# Altium schematic symbol library jlcpcb_2025_04_capacitors_basic.schlib: 88 symbols (part 4 of 4)
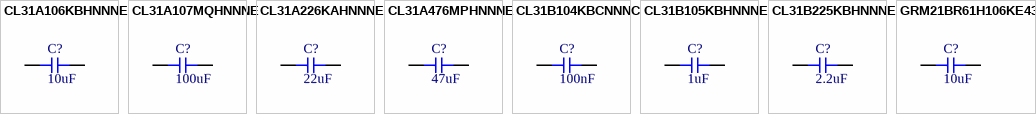
[diagram p5: symbols CL31A106KBHNNNE to GRM21BR61H106KE43L]

## CL31A226KAHNNNE
designator C?  Capacitance: 22uF  (hidden comment: *)
Capacitor, Ceramic (MLCC), 22uF, ±10%, 25V, X5R, ±10%, SMD 1206; Manufacturer: Samsung Electro-Mechanics; Manufacturer Part Number: CL31A226KAHNNNE; Temperature Rating: -55°C ~ 85°C; Capacitance @ 1V DC Bias: 22.377uF; Capacitance @ 1.2V DC Bias: 22.116uF; Capacitance @ 1.35V DC Bias: 21.898uF; Capacitance @ 1.5V DC Bias: 21.664uF; Capacitance @ 1.8V DC Bias: 21.155uF; Capacitance @ 2.5V DC Bias: 19.666uF; Capacitance @ 3.3V DC Bias: 17.727uF; Capacitance @ 3.7V DC Bias: 16.753uF; Capacitance @ 4.2V DC Bias: 15.581uF; Capacitance @ 5V DC Bias: 13.837uF; Capacitance @ 9V DC Bias: 7.815uF; Capacitance @ 12V DC Bias: 5.808uF; Capacitance @ 15V DC Bias: 4.310uF; Capacitance @ 24V DC Bias: 2.368uF; Impedance (0V Bias) @ 100Hz: 89.9Ω; Impedance (0V Bias) @ 500Hz: 18.4Ω; Impedance (0V Bias) @ 1kHz: 9.32Ω; Impedance (0V Bias) @ 5kHz: 1.91Ω; Impedance (0V Bias) @ 10kHz: 0.964Ω; Impedance (0V Bias) @ 50kHz: 0.197Ω; Impedance (0V Bias) @ 100kHz: 0.0993Ω; Impedance (0V Bias) @ 500kHz: 0.0172Ω; Impedance (0V Bias) @ 1MHz: 0.00479Ω; Impedance (0V Bias) @ 5MHz: 0.0194Ω; Impedance (0V Bias) @ 10MHz: 0.0313Ω; Impedance (0V Bias) @ 50MHz: 0.118Ω; Impedance (0V Bias) @ 100MHz: 0.214Ω; Impedance (0V Bias) @ 500MHz: 0.912Ω; Impedance (0V Bias) @ 1GHz: 1.78Ω; Impedance (0V Bias) @ 2GHz: 4.52Ω; Impedance (0V Bias) @ 5GHz: 5.74Ω; Impedance (25V Bias) @ 100Hz: 722Ω; Impedance (25V Bias) @ 500Hz: 146Ω; Impedance (25V Bias) @ 1kHz: 73.1Ω; Impedance (25V Bias) @ 5kHz: 14.7Ω; Impedance (25V Bias) @ 10kHz: 7.39Ω; Impedance (25V Bias) @ 50kHz: 1.49Ω; Impedance (25V Bias) @ 100kHz: 0.746Ω; Impedance (25V Bias) @ 500kHz: 0.142Ω; Impedance (25V Bias) @ 1MHz: 0.0597Ω; Impedance (25V Bias) @ 5MHz: 0.0203Ω; Impedance (25V Bias) @ 10MHz: 0.0417Ω; Impedance (25V Bias) @ 50MHz: 0.115Ω; Impedance (25V Bias) @ 100MHz: 0.213Ω; Impedance (25V Bias) @ 500MHz: 0.925Ω; Impedance (25V Bias) @ 1GHz: 1.79Ω; Impedance (25V Bias) @ 2GHz: 4.53Ω; Impedance (25V Bias) @ 5GHz: 5.82Ω; Package Size: 1206; JLCPCB Basic Part: Yes; JLCPCB Part Number: C12891; Supplier 1: LCSC; Category: Capacitors - MLCC; Supplier Part Number 1: C12891; Tolerance: ±10%; Voltage Rating: 25V; Temperature Coefficient: X5R; RoHS: Yes; ComponentLink1Description: Datasheet; ComponentLink1URL: https://wmsc.lcsc.com/wmsc/upload/file/pdf/v2/lcsc/2304140030_Samsung-Electro-Mechanics-CL31A226KAHNNNE_C12891.pdf; ComponentLink2Description: JLCPCB Part URL; ComponentLink2URL: https://jlcpcb.com/partdetail/C12891; ComponentLink3Description: LCSC Part URL; ComponentLink3URL: https://lcsc.com/product-detail/Multilayer-Ceramic-Capacitors-MLCC---SMD-SMT_Samsung-Electro-Mechanics-Samsung-Electro-Mechanics-CL31A226KAHNNNE_C12891.html; ComponentLink4Description: Samsung Component Library; ComponentLink4URL: https://weblib.samsungsem.com/mlcc/mlcc-ec.do?partNumber=CL31A226KAHNNN
footprint CAP-1206 (1206 (3216M) Capacitor)
pins: 1, 2

## CL31A476MPHNNNE
designator C?  Capacitance: 47uF  (hidden comment: *)
Capacitor, Ceramic (MLCC), 47uF, ±20%, 10V, X5R, ±20%, SMD 1206; Manufacturer: Samsung Electro-Mechanics; Manufacturer Part Number: CL31A476MPHNNNE; Temperature Rating: -55°C ~ 85°C; Capacitance @ 1V DC Bias: 43.604uF; Capacitance @ 1.2V DC Bias: 42.443uF; Capacitance @ 1.35V DC Bias: 41.313uF; Capacitance @ 1.5V DC Bias: 40.058uF; Capacitance @ 1.8V DC Bias: 37.377uF; Capacitance @ 2.5V DC Bias: 31.597uF; Capacitance @ 3.3V DC Bias: 25.769uF; Capacitance @ 3.7V DC Bias: 23.402uF; Capacitance @ 4.2V DC Bias: 20.811uF; Capacitance @ 5V DC Bias: 17.526uF; Capacitance @ 9V DC Bias: 8.957uF; Impedance (0V Bias) @ 100Hz: 45Ω; Impedance (0V Bias) @ 500Hz: 9.22Ω; Impedance (0V Bias) @ 1kHz: 4.66Ω; Impedance (0V Bias) @ 5kHz: 0.955Ω; Impedance (0V Bias) @ 10kHz: 0.483Ω; Impedance (0V Bias) @ 50kHz: 0.0987Ω; Impedance (0V Bias) @ 100kHz: 0.0493Ω; Impedance (0V Bias) @ 500kHz: 0.00688Ω; Impedance (0V Bias) @ 1MHz: 0.00482Ω; Impedance (0V Bias) @ 5MHz: 0.02Ω; Impedance (0V Bias) @ 10MHz: 0.0347Ω; Impedance (0V Bias) @ 50MHz: 0.135Ω; Impedance (0V Bias) @ 100MHz: 0.247Ω; Impedance (0V Bias) @ 500MHz: 0.973Ω; Impedance (0V Bias) @ 1GHz: 1.8Ω; Impedance (0V Bias) @ 2GHz: 4.53Ω; Impedance (0V Bias) @ 5GHz: 5.8Ω; Impedance (10V Bias) @ 100Hz: 210Ω; Impedance (10V Bias) @ 500Hz: 42.6Ω; Impedance (10V Bias) @ 1kHz: 21.4Ω; Impedance (10V Bias) @ 5kHz: 4.33Ω; Impedance (10V Bias) @ 10kHz: 2.17Ω; Impedance (10V Bias) @ 50kHz: 0.439Ω; Impedance (10V Bias) @ 100kHz: 0.22Ω; Impedance (10V Bias) @ 500kHz: 0.0404Ω; Impedance (10V Bias) @ 1MHz: 0.014Ω; Impedance (10V Bias) @ 5MHz: 0.0234Ω; Impedance (10V Bias) @ 10MHz: 0.035Ω; Impedance (10V Bias) @ 50MHz: 0.133Ω; Impedance (10V Bias) @ 100MHz: 0.244Ω; Impedance (10V Bias) @ 500MHz: 1.01Ω; Impedance (10V Bias) @ 1GHz: 1.81Ω; Impedance (10V Bias) @ 2GHz: 4.47Ω; Impedance (10V Bias) @ 5GHz: 5.81Ω; Package Size: 1206; JLCPCB Basic Part: Yes; JLCPCB Part Number: C96123; Supplier 1: LCSC; Category: Capacitors - MLCC; Supplier Part Number 1: C96123; Tolerance: ±20%; Voltage Rating: 10V; Temperature Coefficient: X5R; RoHS: Yes; ComponentLink1Description: Datasheet; ComponentLink1URL: https://wmsc.lcsc.com/wmsc/upload/file/pdf/v2/lcsc/2304140030_Samsung-Electro-Mechanics-CL31A476MPHNNNE_C96123.pdf; ComponentLink2Description: JLCPCB Part URL; ComponentLink2URL: https://jlcpcb.com/partdetail/C96123; ComponentLink3Description: LCSC Part URL; ComponentLink3URL: https://lcsc.com/product-detail/Multilayer-Ceramic-Capacitors-MLCC---SMD-SMT_Samsung-Electro-Mechanics-Samsung-Electro-Mechanics-CL31A476MPHNNNE_C96123.html; ComponentLink4Description: Samsung Component Library; ComponentLink4URL: https://weblib.samsungsem.com/mlcc/mlcc-ec.do?partNumber=CL31A476MPHNNN
footprint CAP-1206 (1206 (3216M) Capacitor)
pins: 1, 2

## CL31B104KBCNNNC
designator C?  Capacitance: 100nF  (hidden comment: *)
Capacitor, Ceramic (MLCC), 100nF, ±10%, 50V, X7R, ±10%, SMD 1206; Manufacturer: Samsung Electro-Mechanics; Manufacturer Part Number: CL31B104KBCNNNC; Temperature Rating: -55°C ~ 125°C; Capacitance @ 1V DC Bias: 106.389nF; Capacitance @ 1.2V DC Bias: 106.577nF; Capacitance @ 1.35V DC Bias: 106.709nF; Capacitance @ 1.5V DC Bias: 106.831nF; Capacitance @ 1.8V DC Bias: 107.024nF; Capacitance @ 2.5V DC Bias: 107.088nF; Capacitance @ 3.3V DC Bias: 106.939nF; Capacitance @ 3.7V DC Bias: 106.905nF; Capacitance @ 4.2V DC Bias: 106.784nF; Capacitance @ 5V DC Bias: 106.403nF; Capacitance @ 9V DC Bias: 103.597nF; Capacitance @ 12V DC Bias: 100.607nF; Capacitance @ 15V DC Bias: 97.210nF; Capacitance @ 24V DC Bias: 84.826nF; Capacitance @ 36V DC Bias: 67.653nF; Capacitance @ 48V DC Bias: 52.833nF; Impedance (0V Bias) @ 100Hz: 1.43E+04Ω; Impedance (0V Bias) @ 500Hz: 2.9E+03Ω; Impedance (0V Bias) @ 1kHz: 1.46E+03Ω; Impedance (0V Bias) @ 5kHz: 298Ω; Impedance (0V Bias) @ 10kHz: 150Ω; Impedance (0V Bias) @ 50kHz: 30.3Ω; Impedance (0V Bias) @ 100kHz: 15.3Ω; Impedance (0V Bias) @ 500kHz: 3.09Ω; Impedance (0V Bias) @ 1MHz: 1.56Ω; Impedance (0V Bias) @ 5MHz: 0.301Ω; Impedance (0V Bias) @ 10MHz: 0.126Ω; Impedance (0V Bias) @ 50MHz: 0.162Ω; Impedance (0V Bias) @ 100MHz: 0.314Ω; Impedance (0V Bias) @ 500MHz: 1.38Ω; Impedance (0V Bias) @ 1GHz: 2.72Ω; Impedance (0V Bias) @ 2GHz: 7.19Ω; Impedance (0V Bias) @ 5GHz: 10.1Ω; Package Size: 1206; JLCPCB Basic Part: Yes; JLCPCB Part Number: C24497; Supplier 1: LCSC; Category: Capacitors - MLCC; Supplier Part Number 1: C24497; Tolerance: ±10%; Voltage Rating: 50V; Temperature Coefficient: X7R; RoHS: Yes; ComponentLink1Description: Datasheet; ComponentLink1URL: https://wmsc.lcsc.com/wmsc/upload/file/pdf/v2/lcsc/2304140030_Samsung-Electro-Mechanics-CL31B104KBCNNNC_C24497.pdf; ComponentLink2Description: JLCPCB Part URL; ComponentLink2URL: https://jlcpcb.com/partdetail/C24497; ComponentLink3Description: LCSC Part URL; ComponentLink3URL: https://lcsc.com/product-detail/Multilayer-Ceramic-Capacitors-MLCC---SMD-SMT_Samsung-Electro-Mechanics-Samsung-Electro-Mechanics-CL31B104KBCNNNC_C24497.html; ComponentLink4Description: Samsung Component Library; ComponentLink4URL: https://weblib.samsungsem.com/mlcc/mlcc-ec.do?partNumber=CL31B104KBCNNN
footprint CAP-1206 (1206 (3216M) Capacitor)
pins: 1, 2

## CL31B105KBHNNNE
designator C?  Capacitance: 1uF  (hidden comment: *)
Capacitor, Ceramic (MLCC), 1uF, ±10%, 50V, X7R, ±10%, SMD 1206; Manufacturer: Samsung Electro-Mechanics; Manufacturer Part Number: CL31B105KBHNNNE; Temperature Rating: -55°C ~ 125°C; Capacitance @ 1V DC Bias: 1.018uF; Capacitance @ 1.2V DC Bias: 1.020uF; Capacitance @ 1.35V DC Bias: 1.022uF; Capacitance @ 1.5V DC Bias: 1.024uF; Capacitance @ 1.8V DC Bias: 1.027uF; Capacitance @ 2.5V DC Bias: 1.031uF; Capacitance @ 3.3V DC Bias: 1.033uF; Capacitance @ 3.7V DC Bias: 1.032uF; Capacitance @ 5V DC Bias: 1.029uF; Capacitance @ 9V DC Bias: 1.003uF; Capacitance @ 12V DC Bias: 0.973uF; Capacitance @ 15V DC Bias: 0.939uF; Capacitance @ 24V DC Bias: 0.812uF; Capacitance @ 36V DC Bias: 0.616uF; Capacitance @ 48V DC Bias: 0.420uF; Impedance (0V Bias) @ 100Hz: 1.7E+03Ω; Impedance (0V Bias) @ 500Hz: 344Ω; Impedance (0V Bias) @ 1kHz: 173Ω; Impedance (0V Bias) @ 5kHz: 35Ω; Impedance (0V Bias) @ 10kHz: 17.6Ω; Impedance (0V Bias) @ 50kHz: 3.56Ω; Impedance (0V Bias) @ 100kHz: 1.79Ω; Impedance (0V Bias) @ 500kHz: 0.36Ω; Impedance (0V Bias) @ 1MHz: 0.177Ω; Impedance (0V Bias) @ 5MHz: 0.0129Ω; Impedance (0V Bias) @ 10MHz: 0.0502Ω; Impedance (0V Bias) @ 50MHz: 0.154Ω; Impedance (0V Bias) @ 100MHz: 0.279Ω; Impedance (0V Bias) @ 500MHz: 1.24Ω; Impedance (0V Bias) @ 1GHz: 2.36Ω; Impedance (0V Bias) @ 2GHz: 5.96Ω; Impedance (0V Bias) @ 5GHz: 8.78Ω; Package Size: 1206; JLCPCB Basic Part: Yes; JLCPCB Part Number: C1848; Supplier 1: LCSC; Category: Capacitors - MLCC; Supplier Part Number 1: C1848; Tolerance: ±10%; Voltage Rating: 50V; Temperature Coefficient: X7R; RoHS: Yes; ComponentLink1Description: Datasheet; ComponentLink1URL: https://wmsc.lcsc.com/wmsc/upload/file/pdf/v2/lcsc/2304140030_Samsung-Electro-Mechanics-CL31B105KBHNNNE_C1848.pdf; ComponentLink2Description: JLCPCB Part URL; ComponentLink2URL: https://jlcpcb.com/partdetail/C1848; ComponentLink3Description: LCSC Part URL; ComponentLink3URL: https://lcsc.com/product-detail/Multilayer-Ceramic-Capacitors-MLCC---SMD-SMT_Samsung-Electro-Mechanics-Samsung-Electro-Mechanics-CL31B105KBHNNNE_C1848.html; ComponentLink4Description: Samsung Component Library; ComponentLink4URL: https://weblib.samsungsem.com/mlcc/mlcc-ec.do?partNumber=CL31B105KBHNNN; Capacitance @ 4.2V DC Bias: 1.031uF
footprint CAP-1206 (1206 (3216M) Capacitor)
pins: 1, 2

## CL31B225KBHNNNE
designator C?  Capacitance: 2.2uF  (hidden comment: *)
Capacitor, Ceramic (MLCC), 2.2uF, ±10%, 50V, X7R, ±10%, SMD 1206; Manufacturer: Samsung Electro-Mechanics; Manufacturer Part Number: CL31B225KBHNNNE; Temperature Rating: -55°C ~ 125°C; Capacitance @ 1V DC Bias: 2.195uF; Capacitance @ 1.2V DC Bias: 2.197uF; Capacitance @ 1.35V DC Bias: 2.199uF; Capacitance @ 2.5V DC Bias: 2.193uF; Capacitance @ 3.3V DC Bias: 2.178uF; Capacitance @ 3.7V DC Bias: 2.169uF; Capacitance @ 4.2V DC Bias: 2.157uF; Capacitance @ 5V DC Bias: 2.134uF; Capacitance @ 9V DC Bias: 1.998uF; Capacitance @ 12V DC Bias: 1.877uF; Capacitance @ 15V DC Bias: 1.754uF; Capacitance @ 24V DC Bias: 1.389uF; Capacitance @ 36V DC Bias: 1.004uF; Capacitance @ 48V DC Bias: 0.742uF; Impedance (0V Bias) @ 100Hz: 788Ω; Impedance (0V Bias) @ 500Hz: 159Ω; Impedance (0V Bias) @ 1kHz: 80.2Ω; Impedance (0V Bias) @ 5kHz: 16.2Ω; Impedance (0V Bias) @ 10kHz: 8.15Ω; Impedance (0V Bias) @ 50kHz: 1.65Ω; Impedance (0V Bias) @ 100kHz: 0.828Ω; Impedance (0V Bias) @ 500kHz: 0.165Ω; Impedance (0V Bias) @ 1MHz: 0.0787Ω; Impedance (0V Bias) @ 5MHz: 0.0172Ω; Impedance (0V Bias) @ 10MHz: 0.0425Ω; Impedance (0V Bias) @ 50MHz: 0.147Ω; Impedance (0V Bias) @ 100MHz: 0.267Ω; Impedance (0V Bias) @ 500MHz: 1.15Ω; Impedance (0V Bias) @ 1GHz: 2.21Ω; Impedance (0V Bias) @ 2GHz: 5.74Ω; Impedance (0V Bias) @ 5GHz: 6.92Ω; Package Size: 1206; JLCPCB Basic Part: Yes; JLCPCB Part Number: C50254; Supplier 1: LCSC; Category: Capacitors - MLCC; Supplier Part Number 1: C50254; Tolerance: ±10%; Voltage Rating: 50V; Temperature Coefficient: X7R; RoHS: Yes; ComponentLink1Description: Datasheet; ComponentLink1URL: https://wmsc.lcsc.com/wmsc/upload/file/pdf/v2/lcsc/2304140030_Samsung-Electro-Mechanics-CL31B225KBHNNNE_C50254.pdf; ComponentLink2Description: JLCPCB Part URL; ComponentLink2URL: https://jlcpcb.com/partdetail/C50254; ComponentLink3Description: LCSC Part URL; ComponentLink3URL: https://lcsc.com/product-detail/Multilayer-Ceramic-Capacitors-MLCC---SMD-SMT_Samsung-Electro-Mechanics-Samsung-Electro-Mechanics-CL31B225KBHNNNE_C50254.html; ComponentLink4Description: Samsung Component Library; ComponentLink4URL: https://weblib.samsungsem.com/mlcc/mlcc-ec.do?partNumber=CL31B225KBHNNN; Capacitance @ 1.5V DC Bias: 2.199uF; Capacitance @ 1.8V DC Bias: 2.199uF
footprint CAP-1206 (1206 (3216M) Capacitor)
pins: 1, 2

## GRM21BR61H106KE43L
designator C?  Capacitance: 10uF  (hidden comment: *)
Capacitor, Ceramic (MLCC), 10uF, ±10%, 50V, X5R, ±10%, SMD 0805; Manufacturer: Murata Electronics; Manufacturer Part Number: GRM21BR61H106KE43L; Package Size: 0805; JLCPCB Basic Part: Yes; JLCPCB Part Number: C440198; Supplier 1: LCSC; Category: Capacitors - MLCC; Supplier Part Number 1: C440198; Tolerance: ±10%; Voltage Rating: 50V; Temperature Coefficient: X5R; RoHS: Yes; ComponentLink1Description: Datasheet; ComponentLink1URL: https://wmsc.lcsc.com/wmsc/upload/file/pdf/v2/lcsc/2310251059_Murata-Electronics-GRM21BR61H106KE43L_C440198.pdf; ComponentLink2Description: JLCPCB Part URL; ComponentLink2URL: https://jlcpcb.com/partdetail/C440198; ComponentLink3Description: LCSC Part URL; ComponentLink3URL: https://lcsc.com/product-detail/Multilayer-Ceramic-Capacitors-MLCC---SMD-SMT_Murata-Electronics-Murata-Electronics-GRM21BR61H106KE43L_C440198.html
footprint CAP-0805 (0805 (2012M) Capacitor)
pins: 1, 2